# EAGLE library part XTR101A (library burr-brown-3)
Precision, Low Drift 4-20mA Two-Wire Transmitter
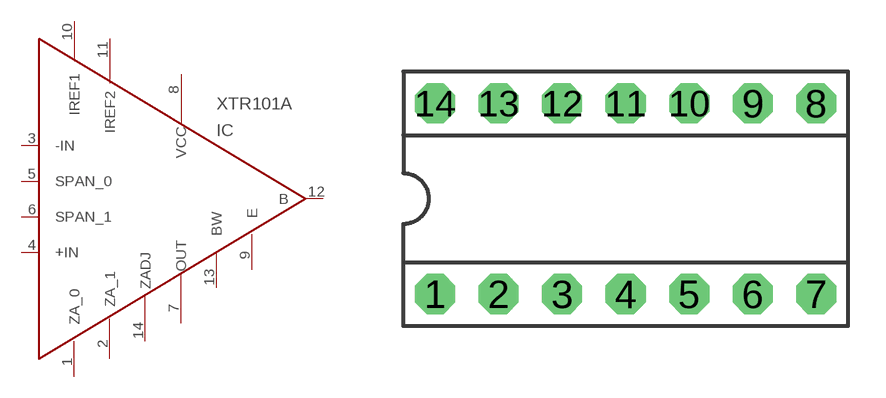
[diagram p173: symbol with the pads of DIL14; footprint DIL14]

Designator prefix IC

## XTR101A  [DIL14]
1  ZA_0  pas
2  ZA_1  pas
3  -IN  in
4  +IN  in
5  SPAN_0  pas
6  SPAN_1  pas
7  OUT  out
8  VCC  pwr
9  E  out
10  IREF1  in
11  IREF2  in
12  B  out
13  BW  out
14  ZADJ  out

## Footprint DIL14 (pad centres in mm)
Dual In Line
drill 0.813 pad 1.6 octagon: 1 -7.62,-3.81; 2 -5.08,-3.81; 3 -2.54,-3.81; 4 0,-3.81; 5 2.54,-3.81; 6 5.08,-3.81; 7 7.62,-3.81; 8 7.62,3.81; 9 5.08,3.81; 10 2.54,3.81; 11 0,3.81; 12 -2.54,3.81; 13 -5.08,3.81; 14 -7.62,3.81